# Altium schematic symbol library Inductors.SchLib: 47 symbols
Pins are listed as number, name and electrical type; pins without a type are passive.

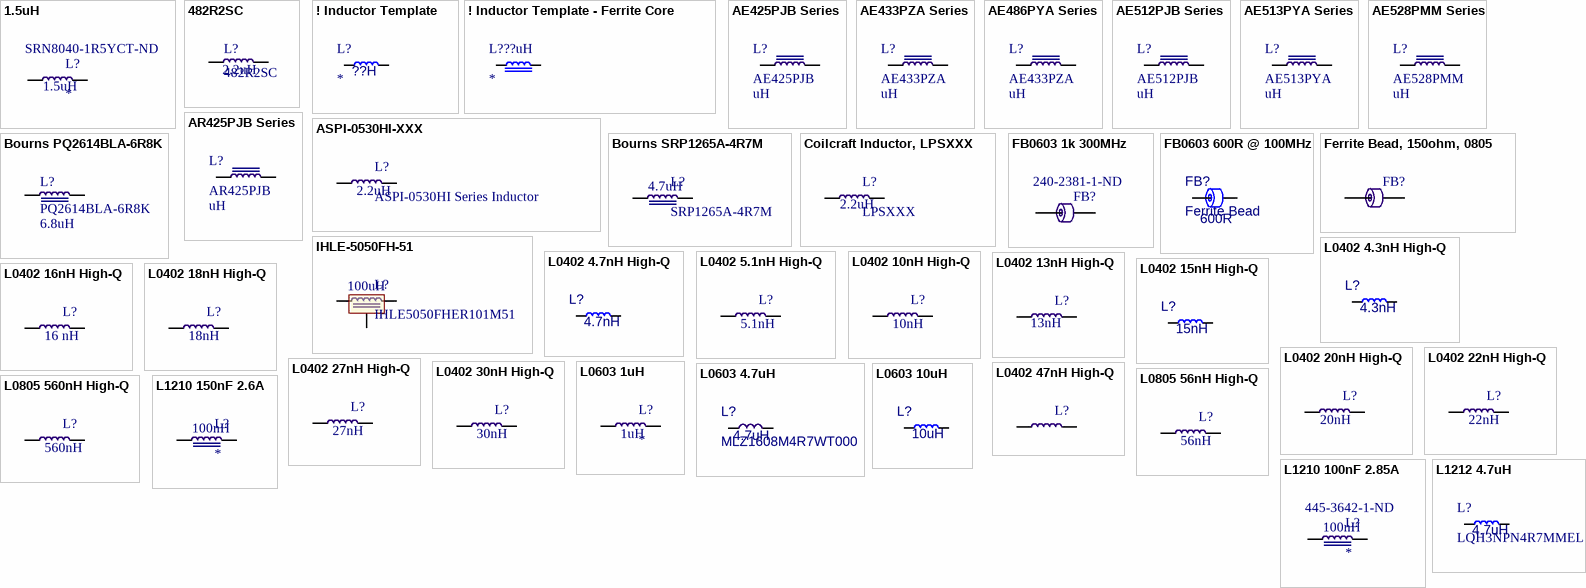
[diagram p0: symbols 1.5uH to L1212 4.7uH]

## 1.5uH
designator L?  value 1.5uH  Supplier Part Number 1: SRN8040-1R5YCT-ND
1.5 uH; Supplier 1: Digi-Key
footprint LPSXXX (Coilcraft Inductor, Unkown Size up to LPS6225)
pins: 1, 2

## 482R2SC
designator L?  value 2.2uH
2.2µH Shielded Wirewound Inductor 8.2A 10mOhm Max Nonstandard, 4 Lead; Supplier 1: Digi-Key; Supplier 2: Mouser; Supplier Part Number 1: 811-3603-1-ND; Supplier Part Number 2: 580-482R2SC
footprint 4800S Murata (Murata 4800S Power Inductors)
pins: 1, 2

## ! Inductor Template
designator L?  value ??H
Inductor, ??uH
pins: 1, 2

## ! Inductor Template - Ferrite Core
designator L?  value ??uH
Inductor, ??uH; Saturation Current: ?? A
pins: 1, 2

## AE425PJB Series
designator L?, comment AE425PJB  Inductance: uH
AE425PJB Series Inductor; DCR max: Ohms; Irms (20°C rise): A; Isat (10% drop): *
footprint AE425PJB (Coilcraft CPS Outgassing Compliant Power Inductors)
pins: 1, 2

## AE433PZA Series
designator L?, comment AE433PZA  Inductance: uH
AE433PZA Series Inductor; DCR max: Ohms; Irms (20°C rise): A; Isat (10% drop): *
footprint AE433PZA (Outgassing Compliant Power Inductor)
pins: 1, 2

## AE486PYA Series
designator L?, comment AE433PZA  Inductance: uH
AE486PYA Series Inductor; DCR max: Ohms; Irms (20°C rise): A; Isat (10% drop): *; Coilcraft: *; Coilcraft CPS: *
footprint AE486PYA (Outgassing Compliant Power Inductor)
pins: 1, 2

## AE512PJB Series
designator L?, comment AE512PJB  Inductance: uH
AE512PJB Series Inductor; DCR max: Ohms; Isat (10% drop): A; Irms (20°C rise): A
footprint AE512PJB (Coilcraft CPS Outgassing Compliant Power Inductors)
pins: 1, 2

## AE513PYA Series
designator L?, comment AE513PYA  Inductance: uH
AE513PYA Series Inductor; DCR max: Ohms; Irms (20°C rise): A; Isat (10% drop): *; Coilcraft CPS: *; Coilcraft: *
footprint AE513PYA (Outgassing Compliant Power Inductors)
pins: 1, 2

## AE528PMM Series
designator L?, comment AE528PMM  Inductance: uH
AE528PMM Series Inductor; DCR max: Ohms; Isat (10% drop): A; Irms (20°C rise: A
footprint AE528PMM (Coilcraft CPS outgassing compliant power inductors)
pins: 1, 2

## AR425PJB Series
designator L?, comment AR425PJB  Inductance: uH
AR425PJB Series Inductor; DCR max: Ohms; Isat (10% drop): A; Irms (20°C rise): A
footprint AR425PJB (Coilcraft CPS Outgassing Compliant Power Inductors)
pins: 1, 2

## ASPI-0530HI-XXX
designator L?, comment ASPI-0530HI Series Inductor  value 2.2uH
Inductor, 2.2uH; Supplier 1: Digi-Key; Supplier Part Number 1: ASPI-0530HI-2R2M-T2CT-ND
footprint ASPI-0530HI (Chip Inductor, 2-Leads, Body 5.60x5.20mm, IPC Medium Density)
pins: 1, 2

## Bourns PQ2614BLA-6R8K
designator L?, comment PQ2614BLA-6R8K  value 6.8uH
FIXED IND 6.8UH 30A 1.6 MOHM SMD; Saturation Current: 26A; Supplier 1: Digi-Key; Supplier 2: Mouser; Supplier Part Number 1: PQ2614BLA-6R8K-ND; Supplier Part Number 2: 652-PQ2614BLA-6R8K
footprint PQ2614BLA/BHA Bourns (Bourns PQ2614 Power Inductors)
pins: 1, 2

## Bourns SRP1265A-4R7M
designator L?, comment SRP1265A-4R7M  value 4.7uH
Inductor, 4.7uH 20%, 14.5A Irms, 28A Isat, 8.4 mOhm DCR, AEC-Q200; Saturation Current: 28 A; Supplier 1: Digi-Key; Supplier Part Number 1: SRP1265A-4R7MCT-ND
footprint Bourns_SRP1265A (Shielded Power Inductor)
pins: 1, 2

## Coilcraft Inductor, LPSXXX
designator L?, comment LPSXXX  value 2.2uH
Inductor, ??uH
footprint LPSXXX (Coilcraft Inductor, Unkown Size up to LPS6225)
pins: 1, 2

## FB0603 1k 300MHz
designator FB?, comment Supplier Part Number 1: 240-2381-1-ND  (hidden comment: Ferrite Bead)
Ferrite Bead, 1k@300MHz, 0603, 300mA; DCR: 600mOhm; Z@f: 1k@300MHz; Supplier 1: Digi-Key
footprint C0603-HIGH-DENSITY (Chip Capacitor, 2-Leads, Body 1.60x0.80mm, IPC High Density)
pins: 1, 2

## FB0603 600R @ 100MHz
designator FB?, comment Ferrite Bead  value 600R
600 Ohms @ 100MHz 1 Ferrite Bead 0603 (1608 Metric) 500mA 380mOhm; Supplier 1: Digi-Key; Supplier Part Number 1: 490-1014-1-ND
footprint L0603
pins: 1, 2

## Ferrite Bead, 150ohm, 0805
designator FB?, comment Ferrite Bead  (value not drawn)
Ferrite Bead, 150ohm, 0805; DCR: 100mOhm; Supplier 1: Digi-Key; Supplier Part Number 1: 490-9703-1-ND; Impedance, 100MHz: 150Ohm
footprint L0805-IPC (Ferrite Bead 0805)
pins: 1, 2

## IHLE-5050FH-51
designator L?, comment IHLE5050FHER101M51  value 100uH
100 µH Shielded Wirewound Inductor 3.1 A 205mOhm Max Nonstandard; Saturation Current: 4.3 A; Supplier 1: Digi-Key; Supplier 2: Mouser; Supplier Part Number 1: 541-IHLE5050FHER101M51CT-ND; Supplier Part Number 2: 70-IHLE5050FHR101M51
footprint IHLE-5050FH-51 (Vishay IHLE High Current Inductors with E-Field Shield)
pins: 1, 2, SHIELD

## L0402 4.3nH High-Q
designator L?  value 4.3nH
Inductor, 0402  4.3nH, High-Q, 600mA,120 mOhm; Q@f: 25@250MHz; Supplier 1: DigiKey; Supplier 2: Mouser; Supplier Part Number 1: 490-LQG15HS4N3B02DCT-ND; Supplier Part Number 2: 81-LQG15HS4N3B02D
footprint L0402-Murata-WW-High-Density (Chip Inductor, 2-Leads, Body 1.00x0.50mm, IPC High Density)
pins: 1, 2

## L0402 4.7nH High-Q
designator L?, comment value 4.7nH  (hidden comment: LQW15AN4N7B00D)
Inductor, 0402  4.7nH, High-Q, 600mA,120 mOhm; Q@f: 25@250MHz; Supplier 1: Digikey; Supplier 2: Mouser; Supplier Part Number 1: 490-6825-1-ND; Supplier Part Number 2: 81-LQW15AN4N7B00D
footprint L0402-Murata-WW-High-Density (Chip Inductor, 2-Leads, Body 1.00x0.50mm, IPC High Density)
pins: 1, 2

## L0402 5.1nH High-Q
designator L?  value 5.1nH  (hidden comment: *)
Inductor, 0402  5.1nH, High-Q, 600mA,120 mOhm; Q@f: 25@250MHz; Supplier 1: Digi-Key; Supplier Part Number 1: 490-6831-1-ND
footprint L0402-Murata-WW-High-Density (Chip Inductor, 2-Leads, Body 1.00x0.50mm, IPC High Density)
pins: 1, 2

## L0402 10nH High-Q
designator L?  value 10nH  (hidden comment: *)
Inductor, 0402 10nH, High-Q, 500mA,170 mOhm; Q@f: 25@250MHz; Supplier 1: Digi-Key; Supplier Part Number 1: 490-6762-1-ND
footprint L0402-Murata-WW-High-Density (Chip Inductor, 2-Leads, Body 1.00x0.50mm, IPC High Density)
pins: 1, 2

## L0402 13nH High-Q
designator L?  value 13nH  (hidden comment: *)
Inductor, 0402, 13nH, High-Q, 430mA,  210mOhm; Q@f: 25@250MHz; Supplier 1: Digi-Key; Supplier Part Number 1: 490-6769-1-ND
footprint L0402-Murata-WW-High-Density (Chip Inductor, 2-Leads, Body 1.00x0.50mm, IPC High Density)
pins: 1, 2

## L0402 15nH High-Q
designator L?, comment value 15nH  (hidden comment: LQW15AN15NJ00D)
Inductor, 0402 15nH, High-Q, 460mA, 160 mOhm; Q@f: 25@250MHz; Supplier 1: Digikey; Supplier 2: Mouser; Supplier Part Number 1: 490-1148-1-ND; Supplier Part Number 2: 81-LQW15AN15NJ00D
footprint L0402-Murata-WW-High-Density (Chip Inductor, 2-Leads, Body 1.00x0.50mm, IPC High Density)
pins: 1, 2

## L0402 16nH High-Q
designator L?  value 16 nH  (hidden comment: *)
Inductor, 0402 16nH, High-Q, 370mA, 240 mOhm; Q@f: 25@250MHz; Supplier 1: Digi-Key; Supplier Part Number 1: 490-6762-1-ND
footprint L0402-Murata-WW-High-Density (Chip Inductor, 2-Leads, Body 1.00x0.50mm, IPC High Density)
pins: 1, 2

## L0402 18nH High-Q
designator L?  value 18nH  (hidden comment: *)
Inductor, 0402 18nH, High-Q, 370mA, 270 mOhm; Q@f: 25@250MHz; Supplier 1: Digi-Key; Supplier Part Number 1: 490-6776-1-ND
footprint L0402-Murata-WW-High-Density (Chip Inductor, 2-Leads, Body 1.00x0.50mm, IPC High Density)
pins: 1, 2

## L0402 20nH High-Q
designator L?  value 20nH  (hidden comment: *)
Inductor, 0402 20nH, High-Q, 370mA, 270 mOhm; Q@f: 25@250MHz; Supplier 1: Digi-Key; Supplier Part Number 1: 490-6784-1-ND
footprint L0402-Murata-WW-High-Density (Chip Inductor, 2-Leads, Body 1.00x0.50mm, IPC High Density)
pins: 1, 2

## L0402 22nH High-Q
designator L?  value 22nH  (hidden comment: *)
Inductor, 0402, 22nH, High-Q, 310mA, 300 mOhm; Q@f: 25@250MHz; Supplier 1: Digi-Key; Supplier Part Number 1: 490-6787-1-ND
footprint L0402-Murata-WW-High-Density (Chip Inductor, 2-Leads, Body 1.00x0.50mm, IPC High Density)
pins: 1, 2

## L0402 27nH High-Q
designator L?  value 27nH  (hidden comment: *)
Inductor, 0402, 27nH, High-Q, 280mA, 520 mOhm; Q@f: 25@250MHz; Supplier 1: Digi-Key; Supplier Part Number 1: 490-6792-1-ND
footprint L0402-Murata-WW-High-Density (Chip Inductor, 2-Leads, Body 1.00x0.50mm, IPC High Density)
pins: 1, 2

## L0402 30nH High-Q
designator L?  value 30nH  (hidden comment: *)
Inductor, 0402, 30nH, High-Q, 270mA, 580 mOhm; Q@f: 25@250MHz; Supplier 1: Digi-Key; Supplier Part Number 1: 490-6802-1-ND
footprint L0402-Murata-WW-High-Density (Chip Inductor, 2-Leads, Body 1.00x0.50mm, IPC High Density)
pins: 1, 2

## L0402 47nH High-Q
designator L?, comment LQW15AN47NG8ZD  (value not drawn)
47nH Unshielded Wirewound Inductor 440mA 648mOhm Max 0402 (1005 Metric); Supplier 1: Digi-Key; Supplier 2: Mouser; Supplier Part Number 1: 490-15449-1-ND; Supplier Part Number 2: 81-LQW15AN47NG8ZD; Value: 47nH
footprint L0402-Murata-WW-High-Density (Chip Inductor, 2-Leads, Body 1.00x0.50mm, IPC High Density)
pins: 1, 2

## L0603 1uH
designator L?  value 1uH
Inductor, 0603, 1uH, 123.0mOhm, 1.3A; Supplier 1: Digi-Key; Supplier Part Number 1: 587-5973-1-ND; Current Rating: 1.3A
footprint L0603
pins: 1, 2

## L0603 4.7uH
designator L?, comment MLZ1608M4R7WT000  value 4.7uH
4.7 µH Shielded Multilayer Inductor 350 mA 500mOhm 0603 (1608 Metric); Current Rating: 350mA; Supplier 1: Digi-Key; Supplier 2: Mouser; Supplier Part Number 2: 810-MLZ1608M4R7WT000; Supplier Part Number 1: 445-6390-1-ND
footprint L0603
pins: 1, 2

## L0603 10uH
designator L?, comment value 10uH  (hidden comment: LBMF1608T100K)
Inductor, 0603  10uH, 80mA, 360mA; Supplier 1: Digikey; Supplier 2: Mouser; Supplier Part Number 1: 587-1714-1-ND; Supplier Part Number 2: 963-LBMF1608T100K; Current Rating: 80mA; DCR: 360mA
footprint L0603
pins: 1, 2

## L0805 56nH High-Q
designator L?  value 56nH  (hidden comment: *)
Inductor, 0402  56nH, High-Q, 500mA, 340 mOhm; Q@f: 60@500MHz; SRF: 1.55GHz; Supplier 1: Digi-Key; Supplier Part Number 1: A103785CT-ND
footprint L0805_TE_3650_2A
pins: 1, 2

## L0805 560nH High-Q
designator L?  value 560nH  (hidden comment: *)
Inductor, 0402  560nH, High-Q, 240mA, 3.1 Ohm; Q@f: 40@100MHz; SRF: 600MHz; Supplier 1: Digi-Key; Supplier Part Number 1: 490-6831-1-ND
footprint L0805-High-Density-Pulse-0805CM (Chip Inductor, 2-Leads, Body 2.29x1.68mm, IPC High Density)
pins: 1, 2

## L1210 100nF 2.85A
designator L?  value 100nH  Supplier Part Number 1: 445-3642-1-ND
Inductor, 100nH; Saturation Current: 2.85 A; Supplier 1: Digi-Key
footprint INDC3225X22M (Chip Inductor, 2-Leads, Body 3.20x2.50mm, IPC Low Density)
pins: 1, 2

## L1210 150nF 2.6A
designator L?  value 100nH
Inductor, 150nH; Saturation Current: 2.6 A; Supplier 1: Digi-Key; Supplier Part Number 1: 445-3643-1-ND
footprint INDC3225X22M (Chip Inductor, 2-Leads, Body 3.20x2.50mm, IPC Low Density)
pins: 1, 2

## L1212 4.7uH
designator L?, comment LQH3NPN4R7MMEL  value 4.7uH
4.7 µH Shielded Drum Core, Wirewound Inductor 1 A 120mOhm Max 1212 (3030 Metric); Supplier 1: Digikey; Supplier 2: Mouser; Supplier Part Number 1: 490-LQH3NPN4R7MMELCT-ND; Supplier Part Number 2: 81-LQH3NPN4R7MMEL
footprint IND_LQH3NPN4R7MMEL
pins: 1, 2

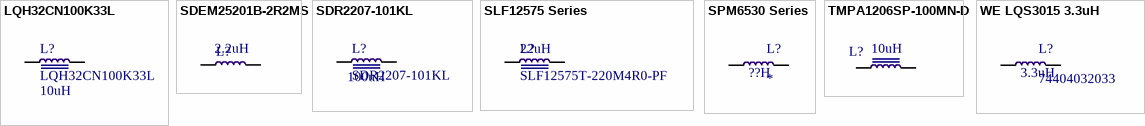
[diagram p1: symbols LQH32CN100K33L to WE LQS3015 3.3uH]

## LQH32CN100K33L
designator L?  value 10uH
FIXED IND 10UH 450MA 390 MOHM, UNSHIELDED WIREWOUND; Saturation Current: 450 mA; Supplier 1: Digi-Key; Supplier 2: Mouser; Supplier 3: LCSC; Supplier Part Number 1: 490-6614-1-ND; Supplier Part Number 2: 81-LQH32CN100K33L; Supplier Part Number 3: C86069
footprint LQH32C L1210 (Murata LQH32C Series Inductors)
pins: 1, 2

## SDEM25201B-2R2MS
designator L?  value 2.2uH  (hidden comment: SDEM25201B-2R2MS)
2.2µH Shielded Inductor 2.05A 117mOhm Max 1008 (2520 Metric); Supplier 1: Digi-Key; Supplier Part Number 1: 2037-SDEM25201B-2R2MSCT-ND
footprint L1008 (Cyntec SDEM25201B)
pins: 1, 2

## SDR2207-101KL
designator L?  value 100uH
FIXED IND 100UH 2.2A 168MOHM SMD; Saturation Current: 3A; Supplier 1: Digi-Key; Supplier 2: Mouser; Supplier Part Number 1: SDR2207-101KLCT-ND; Supplier Part Number 2: 652-SDR2207-101KL; Supplier 3: LCSC; Supplier Part Number 3: C2042134
footprint SDR2207 (Bourns SDR2207 100uH Power Inductor)
pins: 1, 2

## SLF12575 Series
designator L?, comment SLF12575T-220M4R0-PF  value 22uH
22uH ±20% 4A 31.6Ω SMD,12.5x12.5x7.5mm Power Inductors RoHS; Saturation Current: 4 A; Supplier 1: Digi-Key; Supplier 2: Mouser; Supplier 3: LCSC; Supplier Part Number 1: 445-10542-1-ND; Supplier Part Number 2: 810-SLF12575T-220M; Supplier Part Number 3: C89261
pins: 1, 2

## SPM6530 Series
designator L?  value ??H
Inductor, ??uH
footprint SPM6530T
pins: 1, 2

## TMPA1206SP-100MN-D
designator L?  Inductance: 10uH  (hidden comment: TMPA1206SP-100MN-D)
10uH ±20% 10.5A 15.5mΩ SMD,13.5x12.6x5.7mm Power Inductors RoHS; DCR max: 18.6 mOhm; Irms: 12A; Isat: 16A; Supplier 3: LCSC; Supplier Part Number 3: C357116
footprint TMPA1206SP-100MN-D (Taitec 13.5x12.6x5.7mm Shielded Power Inductor)
pins: 1, 2

## WE LQS3015 3.3uH
designator L?, comment 74404032033  value 3.3uH
3.3 µH Semi-Shielded Drum Core, Wirewound Inductor 1.5 A 70mOhm Nonstandard; Supplier 1: Digi-Key; Supplier 2: Mouser; Supplier Part Number 1: 732-5494-1-ND; Supplier Part Number 2: 710-74404032033
footprint L3015 - Wurth (Wurth WE3015)
pins: 1, 2